# Altium footprint library TLI-1550A-2ZT_SMD.PcbLib: 1 footprints
Each footprint in its own frame and in the unit in brackets; x right, y up, seen from the top. Pads: shape width x height; smd on the part's side, far side on the other; paste and mask are expansions set on the pad; w line width, h text height; cw(c..) or ccw(c..) is an arc to the next point about the centre after c.
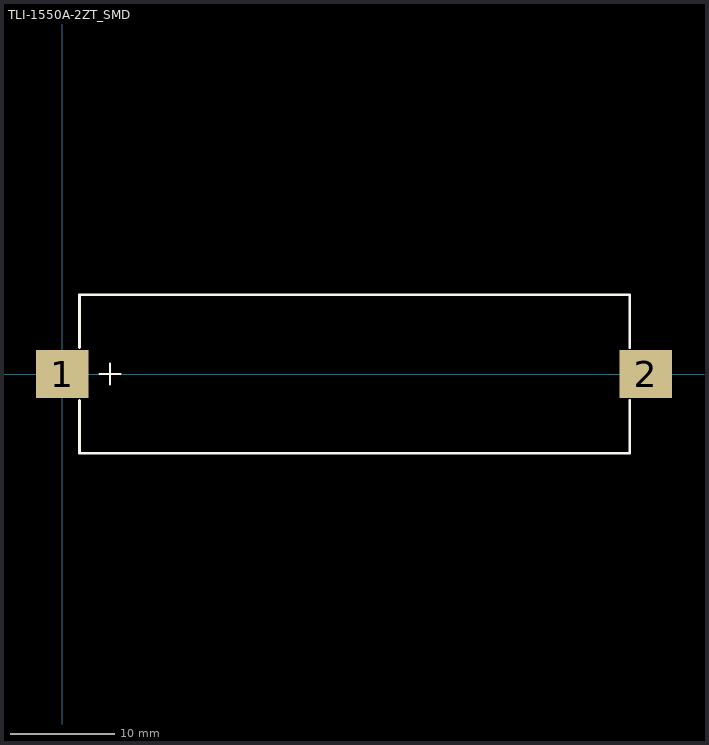
[diagram p0: the footprint, top view; thin cyan lines are the x and y axes]

## TLI-1550A-2ZT_SMD [mil]
pads (2):
  rect 200x180 smd: 1(0,0) 2(2205,0)
Top Overlay:
  lines w8: 140,0 220,0 ; 180,-40 180,40
  lines w10: 65,-100 65,-300 2145,-300 2145,-100 ; 65,100 65,300 2145,300 2145,100
3D body: height 617, standoff -0.35, extent -68.5,-296.88 2268.5,296.9